# Altium footprint library PcbLib1.PcbLib: 1 footprints
Each footprint in its own frame and in the unit in brackets; x right, y up, seen from the top. Pads: shape width x height; smd on the part's side, far side on the other; paste and mask are expansions set on the pad; w line width, h text height; cw(c..) or ccw(c..) is an arc to the next point about the centre after c.
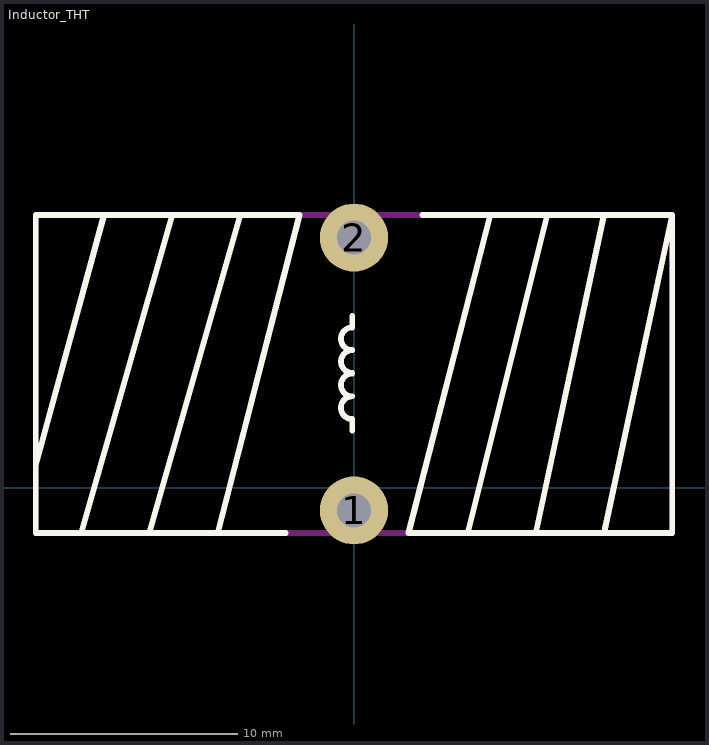
[diagram p0: the footprint, top view; thin cyan lines are the x and y axes]

## Inductor_THT [mm]
pads (2):
  round 3 hole 1.5: 1(0,-1) 2(0,11)
Top Overlay:
  lines w0.254: -14,1 -11,12 ; -12,-2 -8,12 ; -9,-2 -5,12 ; -8,-2 -6,-2 -2.4,12 -14,12 -14,-2 -3,-2 ; -0.077,3.017 cw(c-0.077,3.517) -0.077,4.017 cw(c-0.077,4.517) -0.077,5.017 ; -0.075,2.5 -0.075,3 ; -0.075,5.05 cw(c-0.075,5.55) -0.075,6.05 cw(c-0.075,6.55) -0.075,7.05 -0.075,7.55 ; 3,12 14,12 ; 5,-2 8.5,12 ; 6,12 2.4,-2 14,-2 14,12 ; 8,-2 11,12 ; 11,-2 14,12
Keep-Out Layer:
  lines w0.254: -14,-2 14,-2 14,12 -14,12 -14,-2
3D body "FIT80-6--3DModel-STEP-884787.STEP": height 26.42, standoff -3.81, extent -12.13,-2.62 12,12.62